# Altium integrated library Switcher DS1040-01RN.IntLib: 1 symbol
Pins are listed as number, name and electrical type; pins without a type are passive.

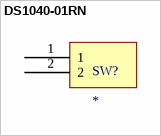
[diagram p0: symbol DS1040-01RN]

## DS1040-01RN
designator SW?
footprint SW (Switch)
pins: 1, 2